# EAGLE library part GRPB222VWQP (library con-sullins-grpb)
HEADER
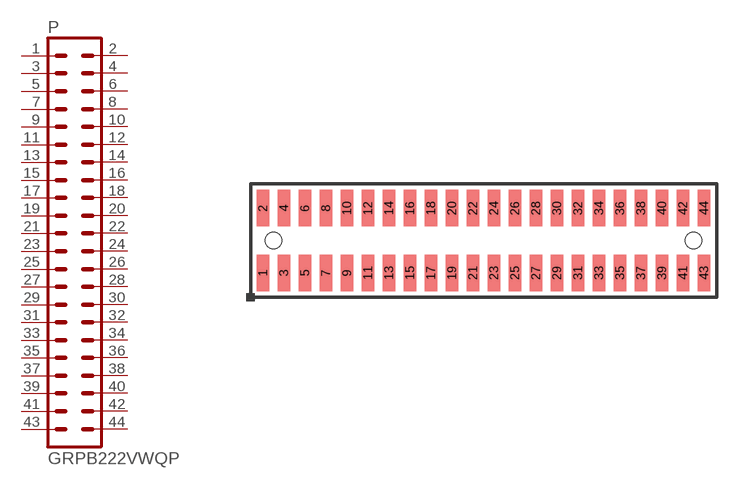
[diagram p19: symbol with the pads of GRPB222VWQP; footprint GRPB222VWQP]

Designator prefix P

## GRPB222VWQP  [GRPB222VWQP]
1  1  pas
2  2  pas
3  3  pas
4  4  pas
5  5  pas
6  6  pas
7  7  pas
8  8  pas
9  9  pas
10  10  pas
11  11  pas
12  12  pas
13  13  pas
14  14  pas
15  15  pas
16  16  pas
17  17  pas
18  18  pas
19  19  pas
20  20  pas
21  21  pas
22  22  pas
23  23  pas
24  24  pas
25  25  pas
26  26  pas
27  27  pas
28  28  pas
29  29  pas
30  30  pas
31  31  pas
32  32  pas
33  33  pas
34  34  pas
35  35  pas
36  36  pas
37  37  pas
38  38  pas
39  39  pas
40  40  pas
41  41  pas
42  42  pas
43  43  pas
44  44  pas

## Footprint GRPB222VWQP (pad centres in mm)
HEADER
smd 0.762 x 2.21: 1 -13.335,-1.956; 2 -13.335,1.956; 3 -12.065,-1.956; 4 -12.065,1.956; 5 -10.795,-1.956; 6 -10.795,1.956; 7 -9.525,-1.956; 8 -9.525,1.956; 9 -8.255,-1.956; 10 -8.255,1.956; 11 -6.985,-1.956; 12 -6.985,1.956; 13 -5.715,-1.956; 14 -5.715,1.956; 15 -4.445,-1.956; 16 -4.445,1.956; 17 -3.175,-1.956; 18 -3.175,1.956; 19 -1.905,-1.956; 20 -1.905,1.956; 21 -0.635,-1.956; 22 -0.635,1.956; 23 0.635,-1.956; 24 0.635,1.956; 25 1.905,-1.956; 26 1.905,1.956; 27 3.175,-1.956; 28 3.175,1.956; 29 4.445,-1.956; 30 4.445,1.956; 31 5.715,-1.956; 32 5.715,1.956; 33 6.985,-1.956; 34 6.985,1.956; 35 8.255,-1.956; 36 8.255,1.956; 37 9.525,-1.956; 38 9.525,1.956; 39 10.795,-1.956; 40 10.795,1.956; 41 12.065,-1.956; 42 12.065,1.956; 43 13.335,-1.956; 44 13.335,1.956
hole 1 at -12.7,0
hole 1 at 12.7,0